# EAGLE library part SN74AHC594 (library lbr_controller)
Seriel to Parallel Shift Register
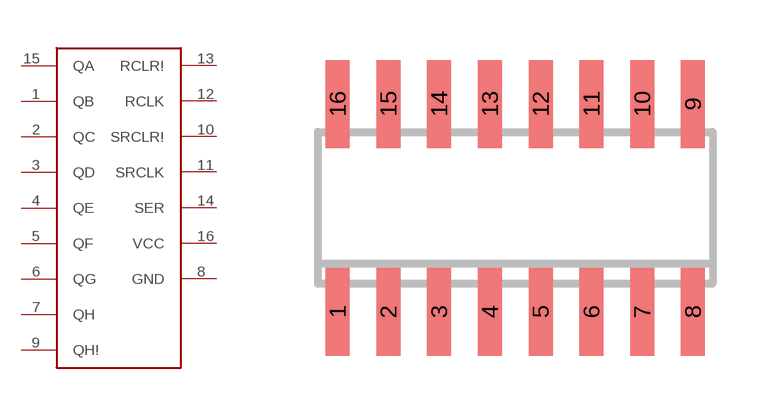
[diagram p0: symbol with the pads of SO16; footprint SO16]

Designator prefix -

## SN74AHC594  [SO16]
1  QB
2  QC
3  QD
4  QE
5  QF
6  QG
7  QH
8  GND
9  QH!
10  SRCLR!
11  SRCLK
12  RCLK
13  RCLR!
14  SER
15  QA
16  VCC

## Footprint SO16 (pad centres in mm)
SMALL OUTLINE INTEGRATED CIRCUIT body 3.9 mm/JEDEC MS-012AC
smd 0.6 x 2.2: 1 -4.445,-2.6; 2 -3.175,-2.6; 3 -1.905,-2.6; 4 -0.635,-2.6; 5 0.635,-2.6; 6 1.905,-2.6; 7 3.175,-2.6; 8 4.445,-2.6; 9 4.445,2.6; 10 3.175,2.6; 11 1.905,2.6; 12 0.635,2.6; 13 -0.635,2.6; 14 -1.905,2.6; 15 -3.175,2.6; 16 -4.445,2.6